# Altium footprint library MINIRACER.PcbLib: 33 footprints (part 2 of 3)
Each footprint in its own frame and in the unit in brackets; x right, y up, seen from the top. Pads: shape width x height; smd on the part's side, far side on the other; paste and mask are expansions set on the pad; w line width, h text height; cw(c..) or ccw(c..) is an arc to the next point about the centre after c.
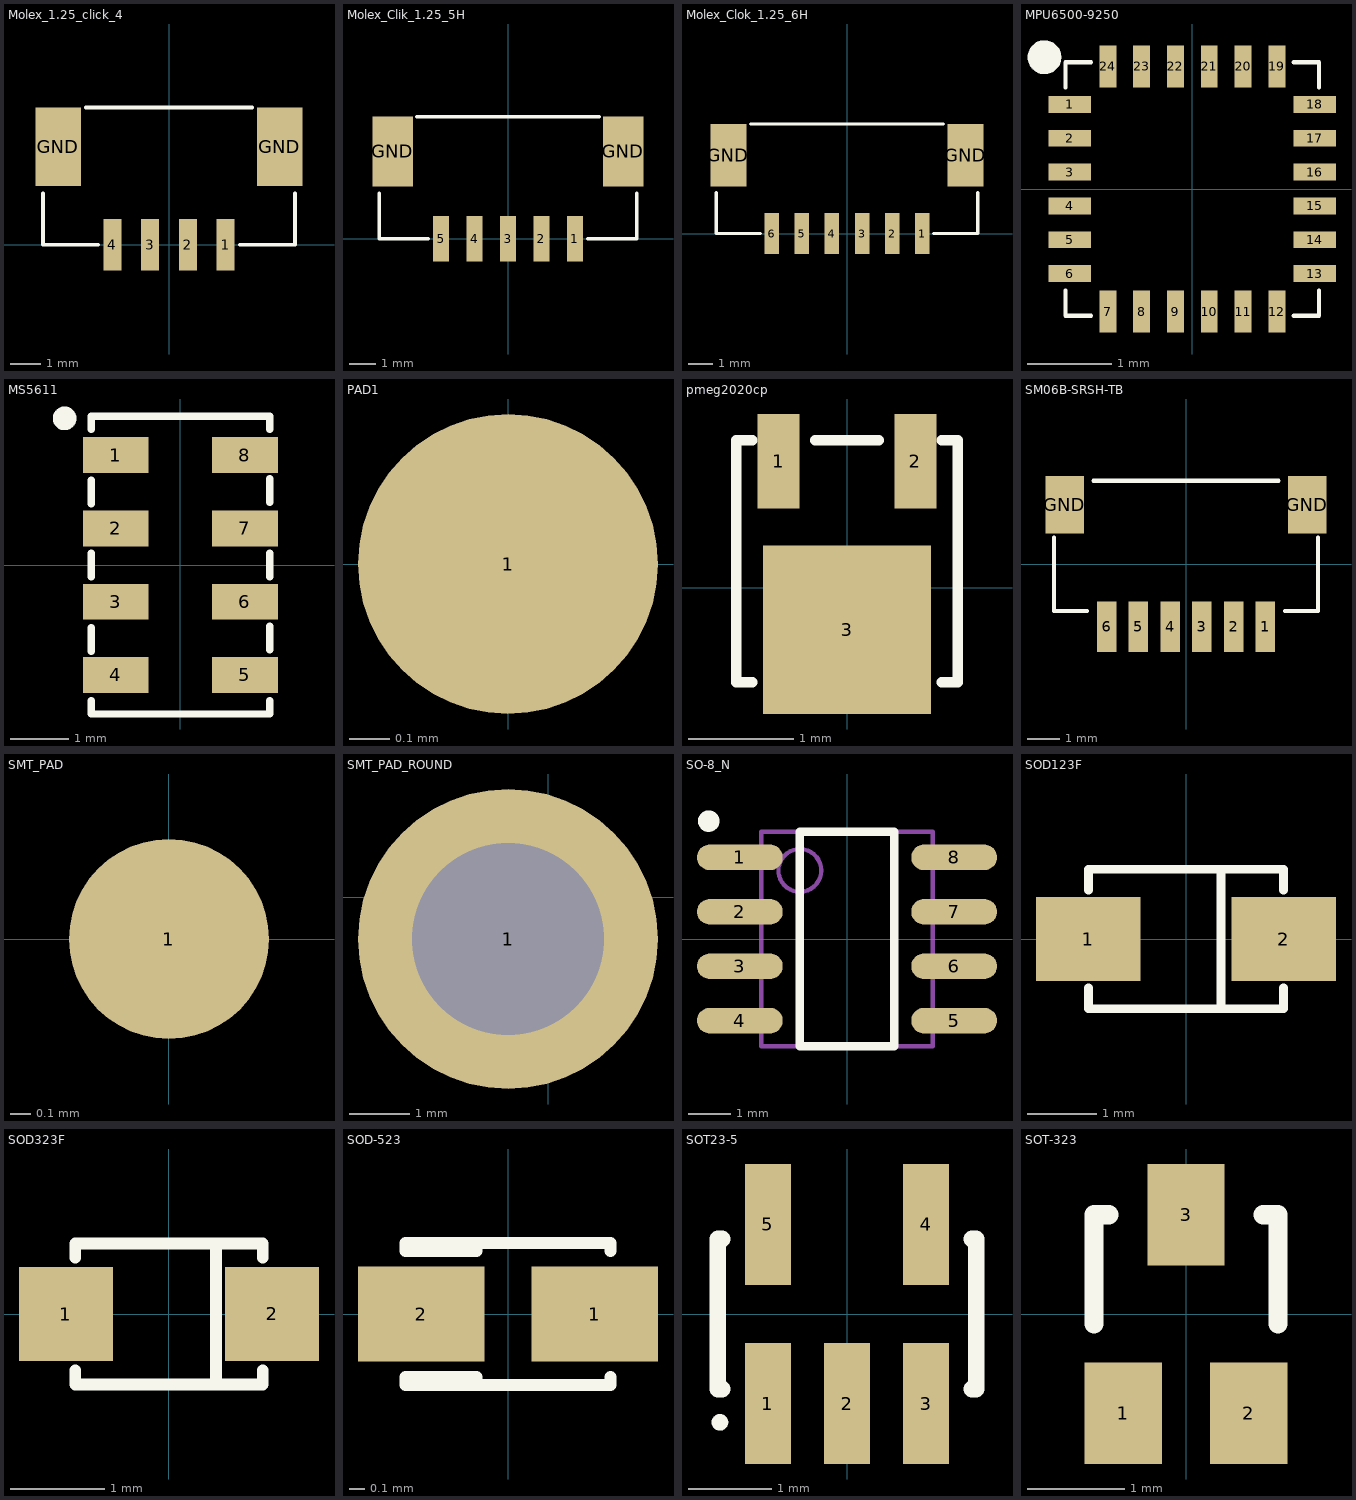
[diagram p1: the footprints below, top view; thin cyan lines are the x and y axes]

## Molex_1.25_click_4 [mm]
height 1.6
pads (6):
  rect 0.6x1.7 smd: 1(1.875,0) 2(0.625,0) 3(-0.625,0) 4(-1.875,0)
  rect 1.5x2.6 smd: GND(-3.675,3.25) GND(3.675,3.25)
Top Overlay:
  lines w0.127: -4.175,1.7 -4.175,0 -2.35,0 ; -2.75,4.55 2.75,4.55 ; 2.35,0 4.175,0 4.175,1.7

## Molex_Clik_1.25_5H [mm]
pads (7):
  rect 0.6x1.7 smd: 1(2.5,0) 2(1.25,0) 3(0,0) 4(-1.25,0) 5(-2.5,0)
  rect 1.5x2.6 smd: GND(-4.3,3.25) GND(4.3,3.25)
Top Overlay:
  lines w0.127: -4.8,1.7 -4.8,0 -2.975,0 ; -3.4,4.55 3.4,4.55 ; 2.975,0 4.8,0 4.8,1.7

## Molex_Clok_1.25_6H [mm]
pads (8):
  rect 0.6x1.7 smd: 1(3.125,0) 2(1.875,0) 3(0.625,0) 4(-0.625,0) 5(-1.875,0) 6(-3.125,0)
  rect 1.5x2.6 smd: GND(-4.925,3.25) GND(4.925,3.25)
Top Overlay:
  lines w0.127: -5.425,1.7 -5.425,0 -3.6,0 ; -4,4.55 4,4.55 ; 3.6,0 5.425,0 5.425,1.7

## MPU6500-9250 [mm]
pads (24):
  rect 0.5x0.2 smd: 1(-1.45,1) 2(-1.45,0.6) 3(-1.45,0.2) 4(-1.45,-0.2) 5(-1.45,-0.6) 6(-1.45,-1) 13(1.45,-1) 14(1.45,-0.6) 15(1.45,-0.2) 16(1.45,0.2) 17(1.45,0.6) 18(1.45,1)
  rect 0.2x0.5 smd: 7(-1,-1.45) 8(-0.6,-1.45) 9(-0.2,-1.45) 10(0.2,-1.45) 11(0.6,-1.45) 12(1,-1.45) 19(1,1.45) 20(0.6,1.45) 21(0.2,1.45) 22(-0.2,1.45) 23(-0.6,1.45) 24(-1,1.45)
Top Overlay:
  circle w0.2: c-1.75,1.559 r0.1
  lines w0.051: -1.5,-1.2 -1.5,-1.5 -1.2,-1.5 ; -1.5,1.2 -1.5,1.5 -1.2,1.5 ; 1.2,-1.5 1.5,-1.5 1.5,-1.2 ; 1.2,1.5 1.5,1.5 1.5,1.2

## MS5611 [mil]
pads (8):
  rect 44x24 smd: 1(-43.3,73.8) 2(-43.3,24.6) 3(-43.3,-24.6) 4(-43.3,-73.8) 5(43.3,-73.8) 6(43.3,-24.6) 7(43.3,24.6) 8(43.3,73.8)
Top Overlay:
  circle w10: c-77.76,98.43 r2.95
  lines w5: -60,-91 -60,-100 60,-100 60,-91 ; -60,-58 -60,-42 ; -60,-8 -60,8 ; -60,41 -60,57 ; -60,91 -60,100 60,100 60,91 ; 60,-57 60,-41 ; 60,-8 60,8 ; 60,42 60,58

## PAD1 [mm]
height 0.3
pads (1):
  round 0.75 smd: 1(0,0)

## pmeg2020cp [mm]
height 1
pads (3):
  rect 0.4x0.9 smd: 1(-0.65,1.2) 2(0.65,1.2)
  rect 1.6x1.6 smd: 3(0,-0.4)
Top Overlay:
  lines w0.1: -0.9,-0.9 -1.05,-0.9 -1.05,1.4 -0.9,1.4 ; -0.3,1.4 0.3,1.4 ; 0.9,-0.9 1.05,-0.9 1.05,1.4 0.9,1.4

## SM06B-SRSH-TB [mil]
pads (8):
  rect 24x62 smd: 1(97.5,-77) 2(58.5,-77) 3(19.5,-77) 4(-19.5,-77) 5(-58.5,-77) 6(-97.5,-77)
  rect 47.24x70.87 smd: GND(-149,72.83) GND(149,72.83)
Top Overlay:
  lines w5: -162.5,32.5 -162.5,-57.5 -121.5,-57.5 ; -113.5,102.5 113.5,102.5 ; 121.5,-57.5 162.5,-57.5 162.5,32.5

## SMT_PAD [mm]
height 1.2
pads (1):
  round 1 smd: 1(0,0)
Top Solder:
  rectangle: -0.75,-0.75 0.75,0.75

## SMT_PAD_ROUND [mm]
pads (1):
  round 5 / inner round 3.5 / far side round 5 hole 3.2: 1(-0.673,-0.697)

## SO-8_N [mm] "8-Pin Small Outline Integrated Circuit 1.27 mm Pitch, IPC Medium Density"
height 1.75
pads (8):
  oval 2x0.6 smd: 1(-2.5,1.905) 2(-2.5,0.635) 3(-2.5,-0.635) 4(-2.5,-1.905) 5(2.5,-1.905) 6(2.5,-0.635) 7(2.5,0.635) 8(2.5,1.905)
Top Overlay:
  circle w0.25: c-3.225,2.75 r0.125
  lines w0.2: -1.1,-2.5 1.1,-2.5 1.1,2.5 -1.1,2.5 -1.1,-2.5
Mechanical 13:
  circle w0.1: c-1.1,1.6 r0.5
  lines w0.1: -2,-2.5 2,-2.5 2,2.5 -2,2.5 -2,-2.5
3D body: height 1.75, standoff 0, extent -2,-2.5 2,2.5

## SOD123F [mm]
pads (2):
  rect 1.5x1.2 smd: 1(-1.4,0) 2(1.4,0)
Top Overlay:
  lines w0.127: -1.4,-0.7 -1.4,-1 1.4,-1 1.4,-0.7 ; -1.4,0.7 -1.4,1 1.4,1 1.4,0.7 ; 0.5,-1 0.5,1

## SOD323F [mm]
pads (2):
  rect 1x1 smd: 1(-1.1,0) 2(1.1,0)
Top Overlay:
  lines w0.127: -1,-0.6 -1,-0.75 1,-0.75 1,-0.6 ; -1,0.6 -1,0.75 1,0.75 1,0.6 ; 0.5,-0.75 0.5,0.75

## SOD-523 [mm]
pads (2):
  rect 0.8x0.6 smd: 1(0.55,0) 2(-0.55,0)
Top Overlay:
  lines w0.076: -0.2,-0.45 -0.2,-0.4 -0.65,-0.4 -0.65,-0.45 0.65,-0.45 0.65,-0.4 ; -0.2,0.45 -0.2,0.4 -0.65,0.4 -0.65,0.45 0.65,0.45 0.65,0.4

## SOT23-5 [mm] "SOT-23/SC-74A; 5 Leads; Body 3 x 3 mm, inc. leads (LxW max)"
height 1.45
pads (5):
  rect 0.55x1.45 smd: 1(-0.95,-1.075) 2(0,-1.075) 3(0.95,-1.075) 4(0.95,1.075) 5(-0.95,1.075)
Top Overlay:
  circle w0.1: c-1.525,-1.3 r0.05
  lines w0.2: -1.5,-0.9 -1.55,-0.9 -1.55,0.9 -1.5,0.9 ; 1.5,-0.9 1.55,-0.9 1.55,0.9 1.5,0.9

## SOT-323 [mm] "SOT-323/SC-70; 3 Leads; Body 2.2 x 2.2 mm, inc. leads (LxW max)"
height 1
pads (3):
  rect 0.8x1.05 smd: 1(-0.65,-1.025) 2(0.65,-1.025) 3(0,1.025)
Top Overlay:
  lines w0.2: -0.95,-0.1 -0.95,1.025 -0.8,1.025 ; 0.8,1.025 0.95,1.025 0.95,-0.1